# Altium schematic symbol library Miscellaneous Header.SchLib: 38 symbols
Pins are listed as number, name and electrical type; pins without a type are passive.

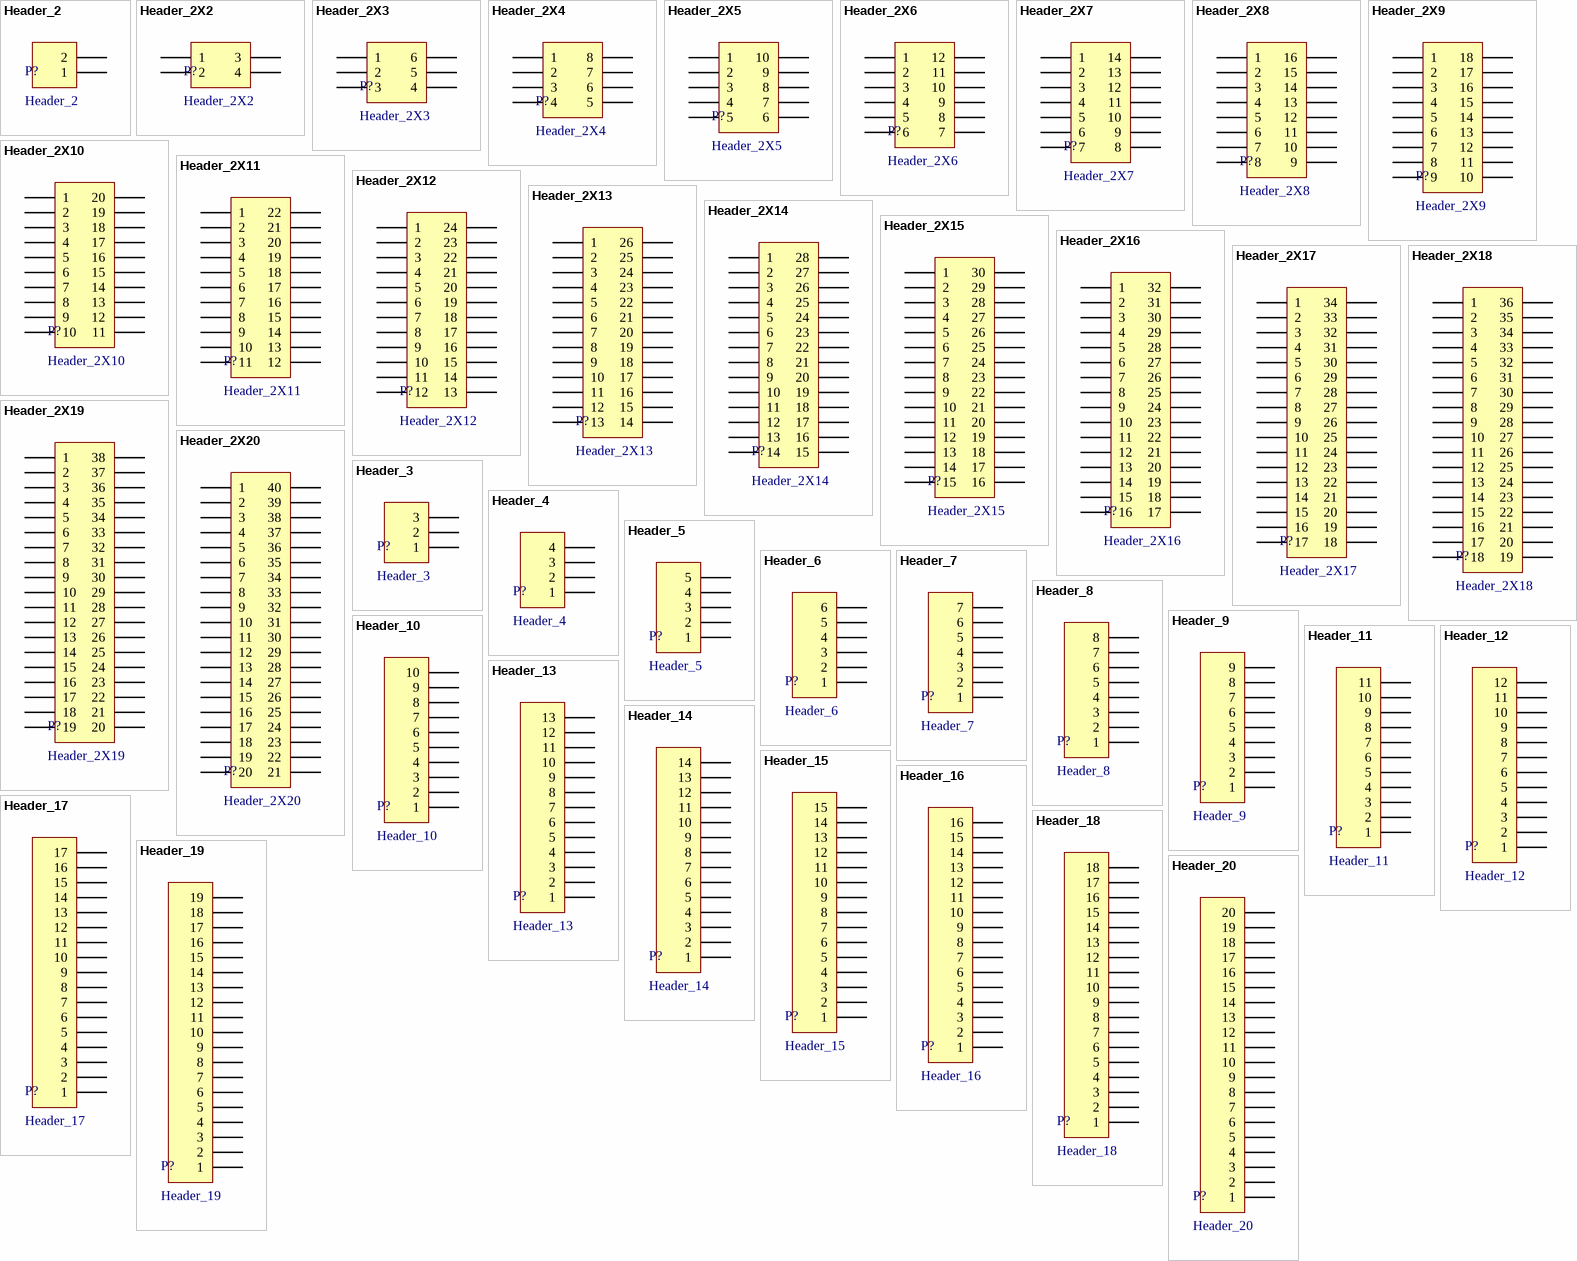
[diagram p0: symbols Header_2 to Header_20]

## Header_2
designator P?
footprint Header 1.27X2
footprint Header 2.54X2
footprint Header F 2.54X2
footprint Header H 2.54X2
pins: 1, 2

## Header_2X2
designator P?
footprint Header 1.27_2X2
footprint Header 2.54_2X2
footprint Header F 2.54_2X2
footprint Header_SMD_1.27X2
footprint Header_SMD_2.54X2
footprint Header_SMD_F_1.27X2
footprint Header_SMD_F_2.54X2
pins: 1, 2, 3, 4

## Header_2X3
designator P?
footprint Header 1.27_2X3
footprint Header 2.54_2X3
footprint Header F 2.54_2X3
footprint Header_SMD_1.27X3
footprint Header_SMD_2.54X3
footprint Header_SMD_F_1.27X3
footprint Header_SMD_F_2.54X3
footprint Header F 1.27_2X3
pins: 1, 2, 3, 4, 5, 6

## Header_2X4
designator P?
footprint Header 1.27_2X4
footprint Header 2.54_2X4
footprint Header F 2.54_2X4
footprint Header_SMD_1.27X4
footprint Header_SMD_2.54X4
footprint Header_SMD_F_1.27X4
footprint Header_SMD_F_2.54X4
footprint Header F 1.27_2X4
pins: 1, 2, 3, 4, 5, 6, 7, 8

## Header_2X5
designator P?
footprint Header 1.27_2X5
footprint Header 2.54_2X5
footprint Header F 2.54_2X5
footprint Header_SMD_1.27X5
footprint Header_SMD_2.54X5
footprint Header_SMD_F_1.27X5
footprint Header_SMD_F_2.54X5
footprint Header F 1.27_2X5
pins: 1 (power), 2 (power), 3 (power), 4 (power), 5 (power), 6 (power), 7 (power), 8 (power), 9 (power), 10 (power)

## Header_2X6
designator P?
footprint Header 1.27_2X6
footprint Header 2.54_2X6
footprint Header F 2.54_2X6
footprint Header_SMD_1.27X6
footprint Header_SMD_2.54X6
footprint Header_SMD_F_1.27X6
footprint Header_SMD_F_2.54X6
footprint Header F 1.27_2X6
pins: 1, 2 (power), 3 (power), 4 (power), 5 (power), 6 (power), 7 (power), 8 (power), 9 (power), 10 (power), 11 (power), 12 (power)

## Header_2X7
designator P?
footprint Header 1.27_2X7
footprint Header 2.54_2X7
footprint Header F 2.54_2X7
footprint Header_SMD_1.27X7
footprint Header_SMD_2.54X7
footprint Header_SMD_F_1.27X7
footprint Header_SMD_F_2.54X7
footprint Header F 1.27_2X7
pins: 1 (power), 2 (power), 3 (power), 4 (power), 5 (power), 6 (power), 7 (power), 8 (power), 9 (power), 10 (power), 11 (power), 12 (power), 13 (power), 14 (power)

## Header_2X8
designator P?
footprint Header 1.27_2X8
footprint Header 2.54_2X8
footprint Header F 2.54_2X8
footprint Header_SMD_1.27X8
footprint Header_SMD_2.54X8
footprint Header_SMD_F_1.27X8
footprint Header_SMD_F_2.54X8
footprint Header F 1.27_2X8
pins: 1 (power), 2 (power), 3 (power), 4 (power), 5 (power), 6 (power), 7 (power), 8 (power), 9 (power), 10 (power), 11 (power), 12 (power), 13 (power), 14 (power), 15 (power), 16 (power)

## Header_2X9
designator P?
footprint Header 1.27_2X9
footprint Header 2.54_2X9
footprint Header F 2.54_2X9
footprint Header_SMD_1.27X9
footprint Header_SMD_2.54X9
footprint Header_SMD_F_1.27X9
footprint Header_SMD_F_2.54X9
footprint Header F 1.27_2X9
pins: 1 (power), 2 (power), 3 (power), 4 (power), 5 (power), 6 (power), 7 (power), 8 (power), 9 (power), 10 (power), 11 (power), 12 (power), 13 (power), 14 (power), 15 (power), 16 (power), 17 (power), 18 (power)

## Header_2X10
designator P?
footprint Header 1.27_2X10
footprint Header 2.54_2X10
footprint Header F 2.54_2X10
footprint Header_SMD_1.27X10
footprint Header_SMD_2.54X10
footprint Header_SMD_F_1.27X10
footprint Header_SMD_F_2.54X10
footprint Header F 1.27_2X10
pins: 1 (power), 2 (power), 3 (power), 4 (power), 5 (power), 6 (power), 7 (power), 8 (power), 9 (power), 10 (power), 11 (power), 12 (power), 13 (power), 14 (power), 15 (power), 16 (power), 17 (power), 18 (power), 19 (power), 20 (power)

## Header_2X11
designator P?
footprint Header 1.27_2X11
footprint Header 2.54_2X11
footprint Header F 2.54_2X11
footprint Header_SMD_1.27X11
footprint Header_SMD_2.54X11
footprint Header_SMD_F_1.27X11
footprint Header_SMD_F_2.54X11
footprint Header F 1.27_2X11
pins: 1 (power), 2 (power), 3 (power), 4 (power), 5 (power), 6 (power), 7 (power), 8 (power), 9 (power), 10 (power), 11 (power), 12 (power), 13 (power), 14 (power), 15 (power), 16 (power), 17 (power), 18 (power), 19 (power), 20 (power), 21 (power), 22 (power)

## Header_2X12
designator P?
footprint Header 1.27_2X12
footprint Header 2.54_2X12
footprint Header F 2.54_2X12
footprint Header_SMD_1.27X12
footprint Header_SMD_2.54X12
footprint Header_SMD_F_1.27X12
footprint Header_SMD_F_2.54X12
footprint Header F 1.27_2X12
pins: 1 (power), 2 (power), 3 (power), 4 (power), 5 (power), 6 (power), 7 (power), 8 (power), 9 (power), 10 (power), 11 (power), 12 (power), 13 (power), 14 (power), 15 (power), 16 (power), 17 (power), 18 (power), 19 (power), 20 (power), 21 (power), 22 (power), 23 (power), 24 (power)

## Header_2X13
designator P?
footprint Header 1.27_2X13
footprint Header 2.54_2X13
footprint Header F 2.54_2X13
footprint Header_SMD_1.27X13
footprint Header_SMD_2.54X13
footprint Header_SMD_F_1.27X13
footprint Header_SMD_F_2.54X13
footprint Header F 1.27_2X13
pins: 1 (power), 2 (power), 3 (power), 4 (power), 5 (power), 6 (power), 7 (power), 8 (power), 9 (power), 10 (power), 11 (power), 12 (power), 13 (power), 14 (power), 15 (power), 16 (power), 17 (power), 18 (power), 19 (power), 20 (power), 21 (power), 22 (power), 23 (power), 24 (power), 25 (power), 26 (power)

## Header_2X14
designator P?
footprint Header 1.27_2X14
footprint Header 2.54_2X14
footprint Header F 2.54_2X14
footprint Header_SMD_1.27X14
footprint Header_SMD_2.54X14
footprint Header_SMD_F_1.27X14
footprint Header_SMD_F_2.54X14
footprint Header F 1.27_2X14
pins: 1 (power), 2 (power), 3 (power), 4 (power), 5 (power), 6 (power), 7 (power), 8 (power), 9 (power), 10 (power), 11 (power), 12 (power), 13 (power), 14 (power), 15 (power), 16 (power), 17 (power), 18 (power), 19 (power), 20 (power), 21 (power), 22 (power), 23 (power), 24 (power), 25 (power), 26 (power), 27 (power), 28 (power)

## Header_2X15
designator P?
footprint Header 1.27_2X15
footprint Header 2.54_2X15
footprint Header F 2.54_2X15
footprint Header_SMD_1.27X15
footprint Header_SMD_2.54X15
footprint Header_SMD_F_1.27X15
footprint Header_SMD_F_2.54X15
footprint Header F 1.27_2X15
pins: 1 (power), 2 (power), 3 (power), 4 (power), 5 (power), 6 (power), 7 (power), 8 (power), 9 (power), 10 (power), 11 (power), 12 (power), 13 (power), 14 (power), 15 (power), 16 (power), 17 (power), 18 (power), 19 (power), 20 (power), 21 (power), 22 (power), 23 (power), 24 (power), 25 (power), 26 (power), 27 (power), 28 (power), 29 (power), 30 (power)

## Header_2X16
designator P?
footprint Header 1.27_2X16
footprint Header 2.54_2X16
footprint Header F 2.54_2X16
footprint Header_SMD_1.27X16
footprint Header_SMD_2.54X16
footprint Header_SMD_F_1.27X16
footprint Header_SMD_F_2.54X16
footprint Header F 1.27_2X16
pins: 1 (power), 2 (power), 3 (power), 4 (power), 5 (power), 6 (power), 7 (power), 8 (power), 9 (power), 10 (power), 11 (power), 12 (power), 13 (power), 14 (power), 15 (power), 16 (power), 17 (power), 18 (power), 19 (power), 20 (power), 21 (power), 22 (power), 23 (power), 24 (power), 25 (power), 26 (power), 27 (power), 28 (power), 29 (power), 30 (power), 31 (power), 32 (power)

## Header_2X17
designator P?
footprint Header 1.27_2X17
footprint Header 2.54_2X17
footprint Header F 2.54_2X17
footprint Header_SMD_1.27X17
footprint Header_SMD_2.54X17
footprint Header_SMD_F_1.27X17
footprint Header_SMD_F_2.54X17
footprint Header F 1.27_2X17
pins: 1 (power), 2 (power), 3 (power), 4 (power), 5 (power), 6 (power), 7 (power), 8 (power), 9 (power), 10 (power), 11 (power), 12 (power), 13 (power), 14 (power), 15 (power), 16 (power), 17 (power), 18 (power), 19 (power), 20 (power), 21 (power), 22 (power), 23 (power), 24 (power), 25 (power), 26 (power), 27 (power), 28 (power), 29 (power), 30 (power), 31 (power), 32 (power), 33 (power), 34 (power)

## Header_2X18
designator P?
footprint Header 1.27_2X18
footprint Header 2.54_2X18
footprint Header F 2.54_2X18
footprint Header_SMD_1.27X18
footprint Header_SMD_2.54X18
footprint Header_SMD_F_1.27X18
footprint Header_SMD_F_2.54X18
footprint Header F 1.27_2X18
pins: 1 (power), 2 (power), 3 (power), 4 (power), 5 (power), 6 (power), 7 (power), 8 (power), 9 (power), 10 (power), 11 (power), 12 (power), 13 (power), 14 (power), 15 (power), 16 (power), 17 (power), 18 (power), 19 (power), 20 (power), 21 (power), 22 (power), 23 (power), 24 (power), 25 (power), 26 (power), 27 (power), 28 (power), 29 (power), 30 (power), 31 (power), 32 (power), 33 (power), 34 (power), 35 (power), 36 (power)

## Header_2X19
designator P?
footprint Header 1.27_2X19
footprint Header 2.54_2X19
footprint Header F 2.54_2X19
footprint Header_SMD_1.27X19
footprint Header_SMD_2.54X19
footprint Header_SMD_F_1.27X19
footprint Header_SMD_F_2.54X19
footprint Header F 1.27_2X19
pins: 1 (power), 2 (power), 3 (power), 4 (power), 5 (power), 6 (power), 7 (power), 8 (power), 9 (power), 10 (power), 11 (power), 12 (power), 13 (power), 14 (power), 15 (power), 16 (power), 17 (power), 18 (power), 19 (power), 20 (power), 21 (power), 22 (power), 23 (power), 24 (power), 25 (power), 26 (power), 27 (power), 28 (power), 29 (power), 30 (power), 31 (power), 32 (power), 33 (power), 34 (power), 35 (power), 36 (power), 37 (power), 38 (power)

## Header_2X20
designator P?
footprint Header 1.27_2X20
footprint Header 2.54_2X20
footprint Header F 2.54_2X20
footprint Header_SMD_1.27X20
footprint Header_SMD_2.54X20
footprint Header_SMD_F_1.27X20
footprint Header_SMD_F_2.54X20
footprint Header F 1.27_2X20
pins: 1 (power), 2 (power), 3 (power), 4 (power), 5 (power), 6 (power), 7 (power), 8 (power), 9 (power), 10 (power), 11 (power), 12 (power), 13 (power), 14 (power), 15 (power), 16 (power), 17 (power), 18 (power), 19 (power), 20 (power), 21 (power), 22 (power), 23 (power), 24 (power), 25 (power), 26 (power), 27 (power), 28 (power), 29 (power), 30 (power), 31 (power), 32 (power), 33 (power), 34 (power), 35 (power), 36 (power), 37 (power), 38 (power), 39 (power), 40 (power)

## Header_3
designator P?
footprint Header 1.27X3
footprint Header 2.54X3
footprint Header F 2.54X3
footprint Header H 2.54X3
footprint Header F 1.27X3
pins: 1, 2, 3

## Header_4
designator P?
footprint Header 1.27X4
footprint Header 2.54X4
footprint Header F 2.54X4
footprint Header H 2.54X4
footprint Header F 1.27X4
pins: 1, 2, 3, 4

## Header_5
designator P?
footprint Header 1.27X5
footprint Header 2.54X5
footprint Header F 2.54X5
footprint Header H 2.54X5
footprint Header F 1.27X5
pins: 1, 2, 3, 4, 5

## Header_6
designator P?
footprint Header 1.27X6
footprint Header 2.54X6
footprint Header F 2.54X6
footprint Header H 2.54X6
footprint Header F 1.27X6
pins: 1, 2, 3, 4, 5, 6

## Header_7
designator P?
footprint Header 1.27X7
footprint Header 2.54X7
footprint Header F 2.54X7
footprint Header H 2.54X7
footprint Header F 1.27X7
pins: 1, 2, 3, 4, 5, 6, 7

## Header_8
designator P?
footprint Header 1.27X8
footprint Header 2.54X8
footprint Header F 2.54X8
footprint Header H 2.54X8
footprint Header F 1.27X8
pins: 1, 2, 3, 4, 5, 6, 7, 8

## Header_9
designator P?
footprint Header 1.27X9
footprint Header 2.54X9
footprint Header F 2.54X9
footprint Header H 2.54X9
footprint Header F 1.27X9
pins: 1, 2, 3, 4, 5, 6, 7, 8, 9

## Header_10
designator P?
footprint Header 1.27X10
footprint Header 2.54X10
footprint Header F 2.54X10
footprint Header H 2.54X10
footprint Header F 1.27X10
pins: 1, 2, 3, 4, 5, 6, 7, 8, 9, 10

## Header_11
designator P?
footprint Header 1.27X11
footprint Header 2.54X11
footprint Header F 2.54X11
footprint Header H 2.54X11
footprint Header F 1.27X11
pins: 1, 2, 3, 4, 5, 6, 7, 8, 9, 10, 11

## Header_12
designator P?
footprint Header 1.27X12
footprint Header 2.54X12
footprint Header F 2.54X12
footprint Header H 2.54X12
footprint Header F 1.27X12
pins: 1, 2, 3, 4, 5, 6, 7, 8, 9, 10, 11, 12

## Header_13
designator P?
footprint Header 1.27X12
footprint Header 2.54X12
footprint Header F 2.54X12
footprint Header H 2.54X12
footprint Header F 1.27X12
pins: 1, 2, 3, 4, 5, 6, 7, 8, 9, 10, 11, 12, 13

## Header_14
designator P?
footprint Header 1.27X14
footprint Header 2.54X14
footprint Header F 2.54X14
footprint Header H 2.54X14
footprint Header F 1.27X14
pins: 1, 2, 3, 4, 5, 6, 7, 8, 9, 10, 11, 12, 13, 14

## Header_15
designator P?
footprint Header 1.27X15
footprint Header 2.54X15
footprint Header F 2.54X15
footprint Header H 2.54X15
footprint Header F 1.27X15
pins: 1, 2, 3, 4, 5, 6, 7, 8, 9, 10, 11, 12, 13, 14, 15

## Header_16
designator P?
footprint Header 1.27X16
footprint Header 2.54X16
footprint Header F 2.54X16
footprint Header H 2.54X16
footprint Header F 1.27X16
pins: 1, 2, 3, 4, 5, 6, 7, 8, 9, 10, 11, 12, 13, 14, 15, 16

## Header_17
designator P?
footprint Header 1.27X17
footprint Header 2.54X17
footprint Header F 2.54X17
footprint Header H 2.54X17
footprint Header F 1.27X17
pins: 1, 2, 3, 4, 5, 6, 7, 8, 9, 10, 11, 12, 13, 14, 15, 16, 17

## Header_18
designator P?
footprint Header 1.27X18
footprint Header 2.54X18
footprint Header F 2.54X18
footprint Header H 2.54X18
footprint Header F 1.27X18
pins: 1, 2, 3, 4, 5, 6, 7, 8, 9, 10, 11, 12, 13, 14, 15, 16, 17, 18

## Header_19
designator P?
footprint Header 1.27X19
footprint Header 2.54X19
footprint Header F 2.54X19
footprint Header H 2.54X19
footprint Header F 1.27X19
pins: 1, 2, 3, 4, 5, 6, 7, 8, 9, 10, 11, 12, 13, 14, 15, 16, 17, 18, 19

## Header_20
designator P?
footprint Header 1.27X20
footprint Header 2.54X20
footprint Header F 2.54X20
footprint Header H 2.54X20
footprint Header F 1.27X20
pins: 1, 2, 3, 4, 5, 6, 7, 8, 9, 10, 11, 12, 13, 14, 15, 16, 17, 18, 19, 20